# EAGLE library part ATSAM3X8EA-AU (library debauer_ics)
IC, MCU, CORTEX M3, 84MHZ, LQFP-144
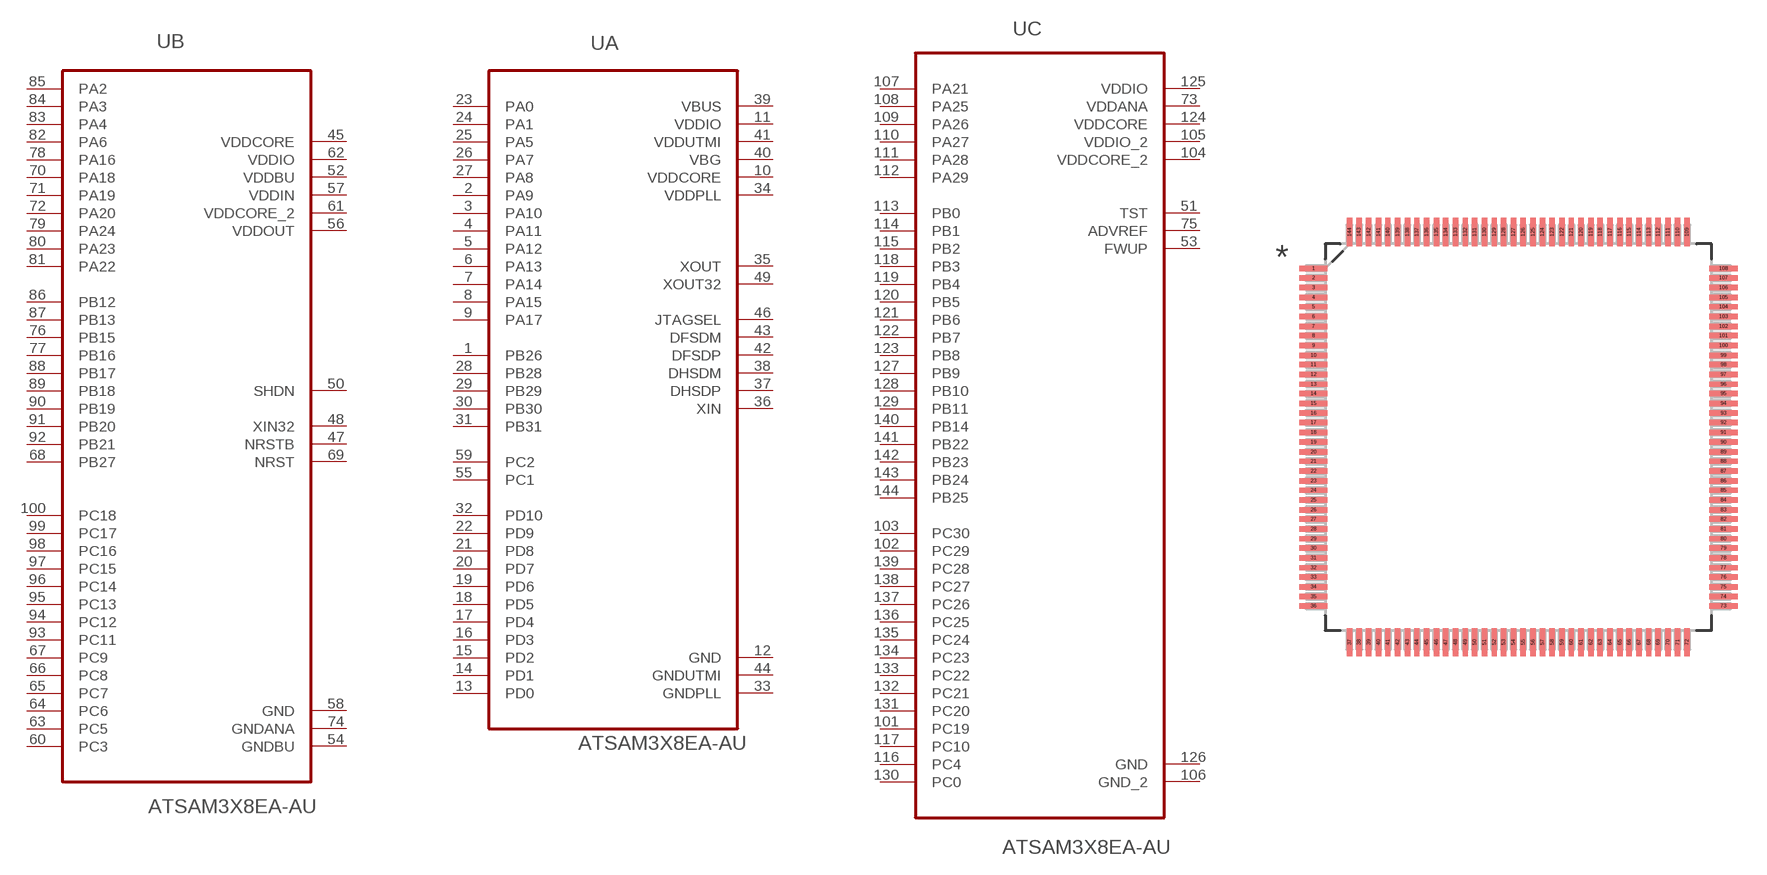
[diagram p1: symbol with the pads of QFP50P2200X2200X145-144N; footprint QFP50P2200X2200X145-144N]

Designator prefix U; gates A=ATSAM3X8EA-AU_A B=ATSAM3X8EA-AU_B C=ATSAM3X8EA-AU_C

## ATSAM3X8EA-AU (MOUNT: smd; MPN: ATSAM3X8EA-AU; OC_FARNELL: 2318839; OC_NEWARK: 92T0815; PACKAGE: LQFP-144; SUPPLIER: ATMEL)  [QFP50P2200X2200X145-144N]
1  A:PB26
2  A:PA9
3  A:PA10
4  A:PA11
5  A:PA12
6  A:PA13
7  A:PA14
8  A:PA15
9  A:PA17
10  A:VDDCORE  pwr
11  A:VDDIO  pwr
12  A:GND  pas
13  A:PD0
14  A:PD1
15  A:PD2
16  A:PD3
17  A:PD4
18  A:PD5
19  A:PD6
20  A:PD7
21  A:PD8
22  A:PD9
23  A:PA0
24  A:PA1
25  A:PA5
26  A:PA7
27  A:PA8
28  A:PB28
29  A:PB29
30  A:PB30
31  A:PB31
32  A:PD10
33  A:GNDPLL  pas
34  A:VDDPLL  pwr
35  A:XOUT  out
36  A:XIN  in
37  A:DHSDP
38  A:DHSDM
39  A:VBUS
40  A:VBG  pwr
41  A:VDDUTMI  pwr
42  A:DFSDP
43  A:DFSDM
44  A:GNDUTMI  pas
45  B:VDDCORE  pwr
46  A:JTAGSEL  in
47  B:NRSTB  in
48  B:XIN32  in
49  A:XOUT32  out
50  B:SHDN  out
51  C:TST  in
52  B:VDDBU  pwr
53  C:FWUP  in
54  B:GNDBU  pas
55  A:PC1
56  B:VDDOUT  pwr
57  B:VDDIN  pwr
58  B:GND  pas
59  A:PC2
60  B:PC3
61  B:VDDCORE_2  pwr
62  B:VDDIO  pwr
63  B:PC5
64  B:PC6
65  B:PC7
66  B:PC8
67  B:PC9
68  B:PB27
69  B:NRST
70  B:PA18
71  B:PA19
72  B:PA20
73  C:VDDANA  pwr
74  B:GNDANA  pas
75  C:ADVREF  in
76  B:PB15
77  B:PB16
78  B:PA16
79  B:PA24
80  B:PA23
81  B:PA22
82  B:PA6
83  B:PA4
84  B:PA3
85  B:PA2
86  B:PB12
87  B:PB13
88  B:PB17
89  B:PB18
90  B:PB19
91  B:PB20
92  B:PB21
93  B:PC11
94  B:PC12
95  B:PC13
96  B:PC14
97  B:PC15
98  B:PC16
99  B:PC17
100  B:PC18
101  C:PC19
102  C:PC29
103  C:PC30
104  C:VDDCORE_2  pwr
105  C:VDDIO_2  pwr
106  C:GND_2  pas
107  C:PA21
108  C:PA25
109  C:PA26
110  C:PA27
111  C:PA28
112  C:PA29
113  C:PB0
114  C:PB1
115  C:PB2
116  C:PC4
117  C:PC10
118  C:PB3
119  C:PB4
120  C:PB5
121  C:PB6
122  C:PB7
123  C:PB8
124  C:VDDCORE  pwr
125  C:VDDIO  pwr
126  C:GND  pas
127  C:PB9
128  C:PB10
129  C:PB11
130  C:PC0
131  C:PC20
132  C:PC21
133  C:PC22
134  C:PC23
135  C:PC24
136  C:PC25
137  C:PC26
138  C:PC27
139  C:PC28
140  C:PB14
141  C:PB22
142  C:PB23
143  C:PB24
144  C:PB25

## Footprint QFP50P2200X2200X145-144N (pad centres in mm)
smd 1.473 x 0.279: 1 -10.617,8.738; 2 -10.617,8.255; 3 -10.617,7.747; 4 -10.617,7.239; 5 -10.617,6.756; 6 -10.617,6.248; 7 -10.617,5.74; 8 -10.617,5.258; 9 -10.617,4.75; 10 -10.617,4.242; 11 -10.617,3.759; 12 -10.617,3.251; 13 -10.617,2.743; 14 -10.617,2.261; 15 -10.617,1.753; 16 -10.617,1.245; 17 -10.617,0.762; 18 -10.617,0.254; 19 -10.617,-0.254; 20 -10.617,-0.762; 21 -10.617,-1.245; 22 -10.617,-1.753; 23 -10.617,-2.261; 24 -10.617,-2.743; 25 -10.617,-3.251; 26 -10.617,-3.759; 27 -10.617,-4.242; 28 -10.617,-4.75; 29 -10.617,-5.258; 30 -10.617,-5.74; 31 -10.617,-6.248; 32 -10.617,-6.756; 33 -10.617,-7.239; 34 -10.617,-7.747; 35 -10.617,-8.255; 36 -10.617,-8.738; 73 10.617,-8.738; 74 10.617,-8.255; 75 10.617,-7.747; 76 10.617,-7.239; 77 10.617,-6.756; 78 10.617,-6.248; 79 10.617,-5.74; 80 10.617,-5.258; 81 10.617,-4.75; 82 10.617,-4.242; 83 10.617,-3.759; 84 10.617,-3.251; 85 10.617,-2.743; 86 10.617,-2.261; 87 10.617,-1.753; 88 10.617,-1.245; 89 10.617,-0.762; 90 10.617,-0.254; 91 10.617,0.254; 92 10.617,0.762; 93 10.617,1.245; 94 10.617,1.753; 95 10.617,2.261; 96 10.617,2.743; 97 10.617,3.251; 98 10.617,3.759; 99 10.617,4.242; 100 10.617,4.75; 101 10.617,5.258; 102 10.617,5.74; 103 10.617,6.248; 104 10.617,6.756; 105 10.617,7.239; 106 10.617,7.747; 107 10.617,8.255; 108 10.617,8.738
smd 0.279 x 1.473: 37 -8.738,-10.617; 38 -8.255,-10.617; 39 -7.747,-10.617; 40 -7.239,-10.617; 41 -6.756,-10.617; 42 -6.248,-10.617; 43 -5.74,-10.617; 44 -5.258,-10.617; 45 -4.75,-10.617; 46 -4.242,-10.617; 47 -3.759,-10.617; 48 -3.251,-10.617; 49 -2.743,-10.617; 50 -2.261,-10.617; 51 -1.753,-10.617; 52 -1.245,-10.617; 53 -0.762,-10.617; 54 -0.254,-10.617; 55 0.254,-10.617; 56 0.762,-10.617; 57 1.245,-10.617; 58 1.753,-10.617; 59 2.261,-10.617; 60 2.743,-10.617; 61 3.251,-10.617; 62 3.759,-10.617; 63 4.242,-10.617; 64 4.75,-10.617; 65 5.258,-10.617; 66 5.74,-10.617; 67 6.248,-10.617; 68 6.756,-10.617; 69 7.239,-10.617; 70 7.747,-10.617; 71 8.255,-10.617; 72 8.738,-10.617; 109 8.738,10.617; 110 8.255,10.617; 111 7.747,10.617; 112 7.239,10.617; 113 6.756,10.617; 114 6.248,10.617; 115 5.74,10.617; 116 5.258,10.617; 117 4.75,10.617; 118 4.242,10.617; 119 3.759,10.617; 120 3.251,10.617; 121 2.743,10.617; 122 2.261,10.617; 123 1.753,10.617; 124 1.245,10.617; 125 0.762,10.617; 126 0.254,10.617; 127 -0.254,10.617; 128 -0.762,10.617; 129 -1.245,10.617; 130 -1.753,10.617; 131 -2.261,10.617; 132 -2.743,10.617; 133 -3.251,10.617; 134 -3.759,10.617; 135 -4.242,10.617; 136 -4.75,10.617; 137 -5.258,10.617; 138 -5.74,10.617; 139 -6.248,10.617; 140 -6.756,10.617; 141 -7.239,10.617; 142 -7.747,10.617; 143 -8.255,10.617; 144 -8.738,10.617